# Altium schematic symbol library TPS65130RGER.SchLib: 1 symbol
Pins are listed as number, name and electrical type; pins without a type are passive.

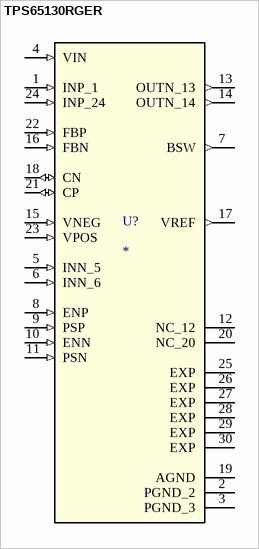
[diagram p0: symbol TPS65130RGER]

## TPS65130RGER
designator U?
MP: TPS65130RGER; Price: None; Package: None; Availability: Unavailable; Value: *
footprint QFN50P400X400X100-25N
pins: 1 INP_1 (in), 2 PGND_2 (power), 3 PGND_3 (power), 4 VIN (in), 5 INN_5 (in), 6 INN_6 (in), 7 BSW (out), 8 ENP (in), 9 PSP (in), 10 ENN (in), 11 PSN (in), 12 NC_12, 13 OUTN_13 (out), 14 OUTN_14 (out), 15 VNEG (in), 16 FBN (in), 17 VREF (out), 18 CN (io), 19 AGND (power), 20 NC_20, 21 CP (io), 22 FBP (in), 23 VPOS (in), 24 INP_24 (in), 25 EXP, 26 EXP, 27 EXP, 28 EXP, 29 EXP, 30 EXP